# EAGLE library part HWCHRONOTHERM3 (library arno)
Honeywell Chronotherm 3
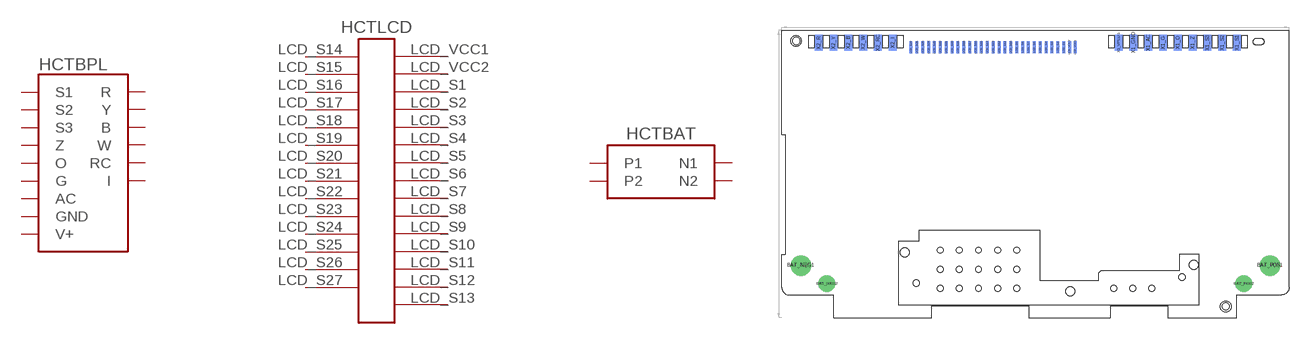
[diagram p21: symbol with the pads of HWCHRONOTHERM3-FULL; footprint HWCHRONOTHERM3-FULL]

Designator prefix HCT; gates BPL=HWCT3-BPL LCD=HWCT3-LCD BAT=HWCT3-BATTERY

## HWCHRONOTHERM3-FULL  [HWCHRONOTHERM3-FULL]
BAT_NEG1  BAT:N1
BAT_NEG2  BAT:N2
BAT_POS1  BAT:P1
BAT_POS2  BAT:P2
LCD_S1  LCD:P3
LCD_S2  LCD:P4
LCD_S3  LCD:P5
LCD_S4  LCD:P6
LCD_S5  LCD:P7
LCD_S6  LCD:P8
LCD_S7  LCD:P9
LCD_S8  LCD:P10
LCD_S9  LCD:P11
LCD_S10  LCD:P12
LCD_S11  LCD:P13
LCD_S12  LCD:P14
LCD_S13  LCD:P15
LCD_S14  LCD:P16
LCD_S15  LCD:P17
LCD_S16  LCD:P18
LCD_S17  LCD:P19
LCD_S18  LCD:P20
LCD_S19  LCD:P21
LCD_S20  LCD:P22
LCD_S21  LCD:P23
LCD_S22  LCD:P24
LCD_S23  LCD:P25
LCD_S24  LCD:P26
LCD_S25  LCD:P27
LCD_S26  LCD:P28
LCD_S27  LCD:P29
LCD_VCC1  LCD:P1
LCD_VCC2  LCD:P2
X1_AC  BPL:AC
X1_G  BPL:G
X1_GND  BPL:GND
X1_O  BPL:O
X1_S1  BPL:S1
X1_S2  BPL:S2
X1_S3  BPL:S3
X1_VPLUS  BPL:V+  pwr
X1_Z  BPL:Z
X2_B  BPL:B
X2_I  BPL:I
X2_R  BPL:R
X2_RC  BPL:RC
X2_W  BPL:W
X2_Y  BPL:Y

## Footprint HWCHRONOTHERM3-FULL (pad centres in mm)
Honeywell ChronoTherm 3 - Main PCB Dimensions and external connections based on the main PCB of a Honeywell ChronoTherm 3 thermostat. Note that it measured it all by hand and that these dimensinos have not yet been verified!
drill 4 pad 7: BAT_NEG1 6.5,17.75; BAT_POS1 166.25,17.75
drill 4 pad 5.75: BAT_NEG2 15.35,11.6; BAT_POS2 157.25,11.6
smd 1 x 4 bottom: LCD_S1 96,92.2; LCD_S2 94,92.2; LCD_S3 92,92.2; LCD_S4 90,92.2; LCD_S5 88,92.2; LCD_S6 86,92.2; LCD_S7 84,92.2; LCD_S8 82,92.2; LCD_S9 80,92.2; LCD_S10 78,92.2; LCD_S11 76,92.2; LCD_S12 74,92.2; LCD_S13 72,92.2; LCD_S14 70,92.2; LCD_S15 68,92.2; LCD_S16 66,92.2; LCD_S17 64,92.2; LCD_S18 62,92.2; LCD_S19 60,92.2; LCD_S20 58,92.2; LCD_S21 56,92.2; LCD_S22 54,92.2; LCD_S23 52,92.2; LCD_S24 50,92.2; LCD_S25 48,92.2; LCD_S26 46,92.2; LCD_S27 44,92.2; LCD_VCC1 100,92.2; LCD_VCC2 98,92.2
smd 2.7 x 5.5 bottom: X1_AC 124.77,93.75; X1_G 129.81,93.75; X1_GND 119.73,93.75; X1_O 134.85,93.75; X1_S1 155,93.75; X1_S2 149.97,93.75; X1_S3 144.93,93.75; X1_VPLUS 114.69,93.75; X1_Z 139.89,93.75; X2_B 22.67,93.75; X2_I 37.79,93.75; X2_R 12.59,93.75; X2_RC 32.75,93.75; X2_W 27.71,93.75; X2_Y 17.63,93.75
hole 3.05 at 140.25,18
hole 3.05 at 41.85,22.3
hole 2.45 at 151.18,3.825
hole 2.45 at 4.9,94.3
hole 2.2 at 45.8,11.7
hole 3.05 at 98.2,8.9
hole 2 at 54,10
hole 2 at 54,16.5
hole 2 at 54,23
hole 2 at 60.5,10
hole 2 at 60.5,16.5
hole 2 at 60.5,23
hole 2 at 67,10
hole 2 at 67,16.5
hole 2 at 67,23
hole 2 at 73.5,10
hole 2 at 73.5,16.5
hole 2 at 73.5,23
hole 2 at 80,10
hole 2 at 80,16.5
hole 2 at 80,23
hole 2 at 113,10
hole 2 at 119.5,10
hole 2 at 126,10
hole 2.2 at 136.25,13.8